# Altium integrated library SparkFun-Connectors.IntLib: 333 symbols (part 1 of 9)
Pins are listed as number, name and electrical type; pins without a type are passive.

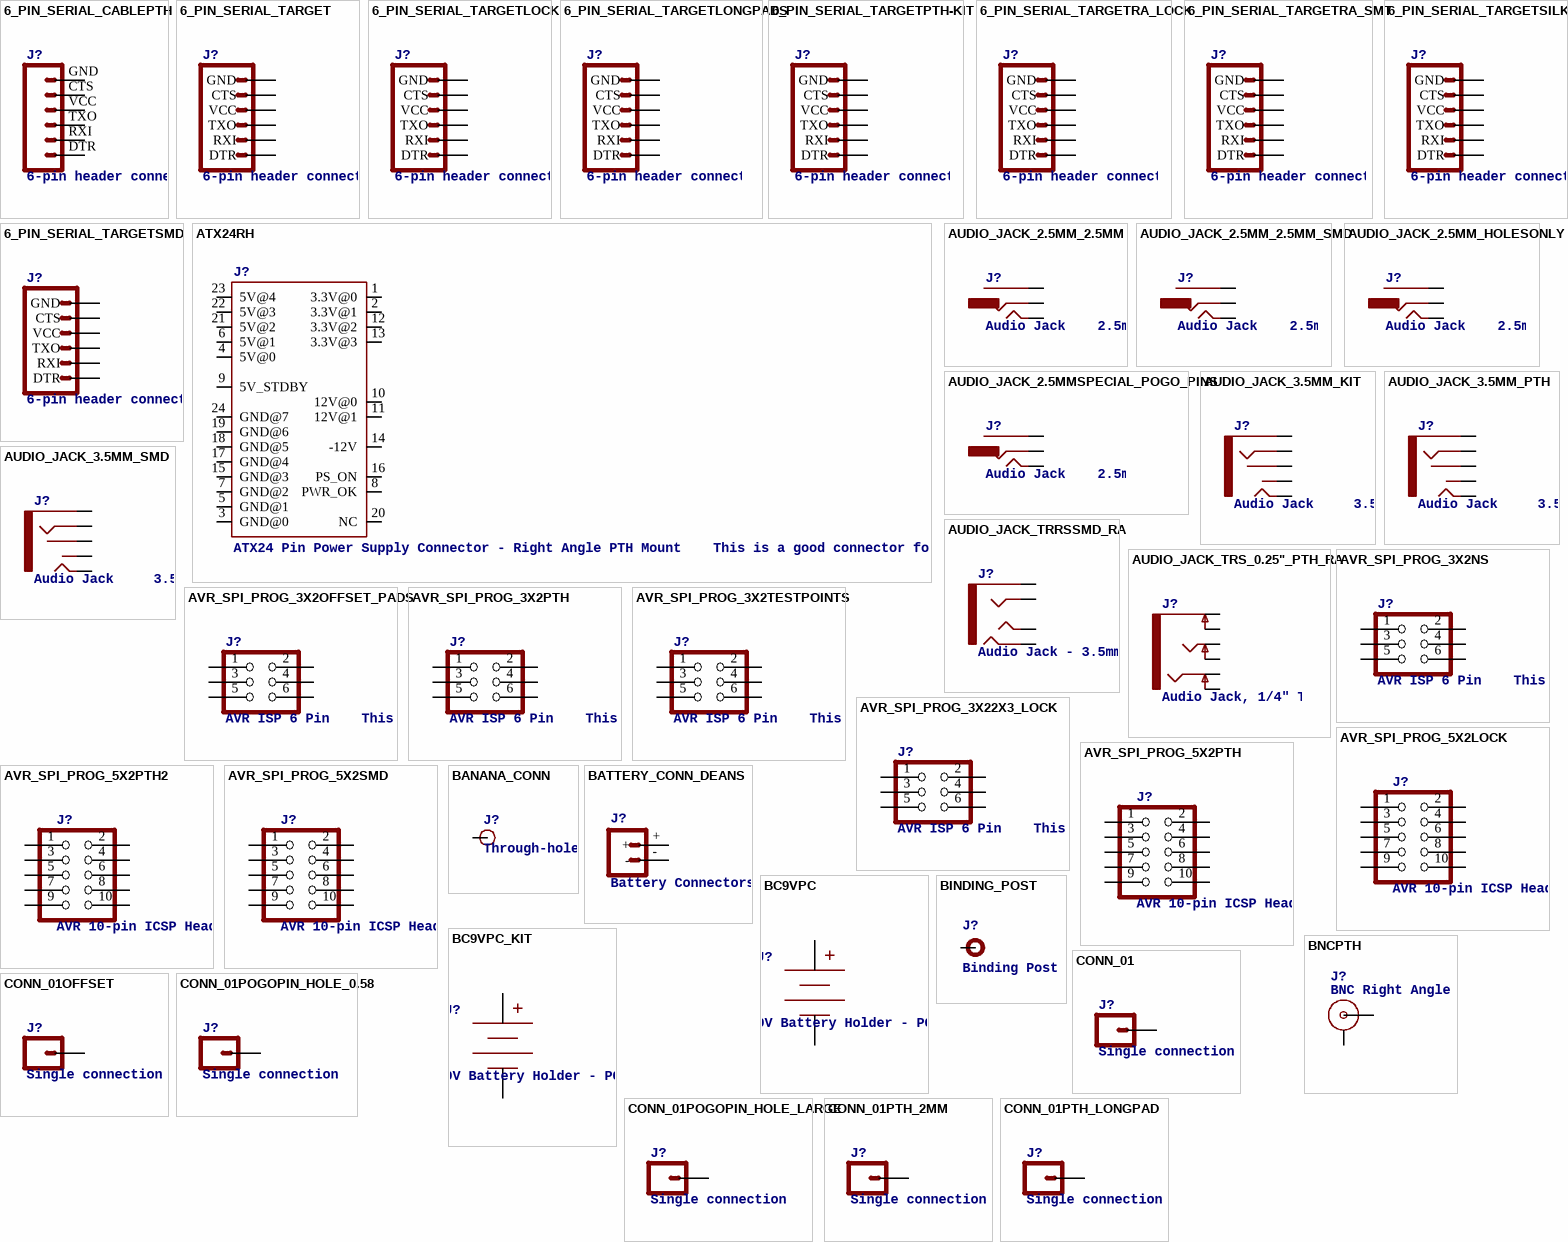
[diagram p0: symbols 6_PIN_SERIAL_CABLEPTH to CONN_01PTH_LONGPAD]

## 6_PIN_SERIAL_CABLEPTH
designator J?, comment 6-pin header connection for use with the "FTDI BASIC" pinout - CABLE SIDE.     Also known as "Arduino Serial Program Header".    This is used on a design to provide a 6-pin connection point for serial communication usually from a USB cable (D+/D-) to these headers (RX/TX). It also has the remaining pins necessary for programming in the Arduino evironment (DTR, GND, and sometimes VCC).    Note, this device has "CABLE" in the name.  It is intended to be used on a design that usually lives on the end of your USB cable and prvides the converter chip (FTDI232 or FTDI231x) to commnicate serial RX/TX.     The "sister" device, named "TARGET" is inteneded to be used on a design that contains a target micro-controller that you wish to program.    You can populate with some of these:  Female Headers (PRT-00115)       For reference (or to suit your programming needs) check out these designs:   SparkFun FTDI Basic Breakout - 5V (DEV-09716)   SparkFun FTDI Basic Breakout - 3.3V (DEV-09873)   SparkFun FTDI SmartBasic (DEV-12935)   SparkFun Beefy 3 - FTDI Basic Breakout (DEV-13746)
footprint FTDI_BASIC
pins: CTS 5, DTR 1, GND 6, RXI 2, TXO 3, VCC 4

## 6_PIN_SERIAL_TARGET
designator J?, comment 6-pin header connection for use with the "FTDI BASIC" pinout - TARGET SIDE.     Also known as "Arduino Serial Program Header".    It is used to mate with our FTDI Basic serial programmers using the Arduino IDE.    Note, this device has "TARGET" in the name. It is intended to be used on a design that contains a target micro-controller that you wish to program.    The "sister" device, named "CABLE" is inteneded to be used on a design that usually lives on the end of your USB cable and prvides the converter chip (FTDI232 or FTDI231x) to commnicate serial RX/TX.    You can populate with some of these:    Break Away Headers - Straight (PRT-00116)   For reference (or to suit your programming needs) check out these designs:   SparkFun FTDI Basic Breakout - 5V (DEV-09716)   SparkFun FTDI Basic Breakout - 3.3V (DEV-09873)   SparkFun FTDI SmartBasic (DEV-12935)   SparkFun Beefy 3 - FTDI Basic Breakout (DEV-13746)
footprint 1X06
pins: 1 DTR, 2 RXI, 3 TXO, 4 VCC, 5 CTS, 6 GND

## 6_PIN_SERIAL_TARGETLOCK
designator J?, comment 6-pin header connection for use with the "FTDI BASIC" pinout - TARGET SIDE.     Also known as "Arduino Serial Program Header".    It is used to mate with our FTDI Basic serial programmers using the Arduino IDE.    Note, this device has "TARGET" in the name. It is intended to be used on a design that contains a target micro-controller that you wish to program.    The "sister" device, named "CABLE" is inteneded to be used on a design that usually lives on the end of your USB cable and prvides the converter chip (FTDI232 or FTDI231x) to commnicate serial RX/TX.    You can populate with some of these:    Break Away Headers - Straight (PRT-00116)   For reference (or to suit your programming needs) check out these designs:   SparkFun FTDI Basic Breakout - 5V (DEV-09716)   SparkFun FTDI Basic Breakout - 3.3V (DEV-09873)   SparkFun FTDI SmartBasic (DEV-12935)   SparkFun Beefy 3 - FTDI Basic Breakout (DEV-13746)
footprint 1X06_LOCK
pins: 1 DTR, 2 RXI, 3 TXO, 4 VCC, 5 CTS, 6 GND

## 6_PIN_SERIAL_TARGETLONGPADS
designator J?, comment 6-pin header connection for use with the "FTDI BASIC" pinout - TARGET SIDE.     Also known as "Arduino Serial Program Header".    It is used to mate with our FTDI Basic serial programmers using the Arduino IDE.    Note, this device has "TARGET" in the name. It is intended to be used on a design that contains a target micro-controller that you wish to program.    The "sister" device, named "CABLE" is inteneded to be used on a design that usually lives on the end of your USB cable and prvides the converter chip (FTDI232 or FTDI231x) to commnicate serial RX/TX.    You can populate with some of these:    Break Away Headers - Straight (PRT-00116)   For reference (or to suit your programming needs) check out these designs:   SparkFun FTDI Basic Breakout - 5V (DEV-09716)   SparkFun FTDI Basic Breakout - 3.3V (DEV-09873)   SparkFun FTDI SmartBasic (DEV-12935)   SparkFun Beefy 3 - FTDI Basic Breakout (DEV-13746)
footprint 1X06_LONGPADS
pins: 1 DTR, 2 RXI, 3 TXO, 4 VCC, 5 CTS, 6 GND

## 6_PIN_SERIAL_TARGETPTH-KIT
designator J?, comment 6-pin header connection for use with the "FTDI BASIC" pinout - TARGET SIDE.     Also known as "Arduino Serial Program Header".    It is used to mate with our FTDI Basic serial programmers using the Arduino IDE.    Note, this device has "TARGET" in the name. It is intended to be used on a design that contains a target micro-controller that you wish to program.    The "sister" device, named "CABLE" is inteneded to be used on a design that usually lives on the end of your USB cable and prvides the converter chip (FTDI232 or FTDI231x) to commnicate serial RX/TX.    You can populate with some of these:    Break Away Headers - Straight (PRT-00116)   For reference (or to suit your programming needs) check out these designs:   SparkFun FTDI Basic Breakout - 5V (DEV-09716)   SparkFun FTDI Basic Breakout - 3.3V (DEV-09873)   SparkFun FTDI SmartBasic (DEV-12935)   SparkFun Beefy 3 - FTDI Basic Breakout (DEV-13746)
footprint 1X06-KIT
pins: 1 DTR, 2 RXI, 3 TXO, 4 VCC, 5 CTS, 6 GND

## 6_PIN_SERIAL_TARGETRA_LOCK
designator J?, comment 6-pin header connection for use with the "FTDI BASIC" pinout - TARGET SIDE.     Also known as "Arduino Serial Program Header".    It is used to mate with our FTDI Basic serial programmers using the Arduino IDE.    Note, this device has "TARGET" in the name. It is intended to be used on a design that contains a target micro-controller that you wish to program.    The "sister" device, named "CABLE" is inteneded to be used on a design that usually lives on the end of your USB cable and prvides the converter chip (FTDI232 or FTDI231x) to commnicate serial RX/TX.    You can populate with some of these:    Break Away Headers - Straight (PRT-00116)   For reference (or to suit your programming needs) check out these designs:   SparkFun FTDI Basic Breakout - 5V (DEV-09716)   SparkFun FTDI Basic Breakout - 3.3V (DEV-09873)   SparkFun FTDI SmartBasic (DEV-12935)   SparkFun Beefy 3 - FTDI Basic Breakout (DEV-13746)
footprint MOLEX_1X6_RA_LOCK
pins: 1 GND, 2 CTS, 3 VCC, 4 TXO, 5 RXI, 6 DTR

## 6_PIN_SERIAL_TARGETRA_SMT
designator J?, comment 6-pin header connection for use with the "FTDI BASIC" pinout - TARGET SIDE.     Also known as "Arduino Serial Program Header".    It is used to mate with our FTDI Basic serial programmers using the Arduino IDE.    Note, this device has "TARGET" in the name. It is intended to be used on a design that contains a target micro-controller that you wish to program.    The "sister" device, named "CABLE" is inteneded to be used on a design that usually lives on the end of your USB cable and prvides the converter chip (FTDI232 or FTDI231x) to commnicate serial RX/TX.    You can populate with some of these:    Break Away Headers - Straight (PRT-00116)   For reference (or to suit your programming needs) check out these designs:   SparkFun FTDI Basic Breakout - 5V (DEV-09716)   SparkFun FTDI Basic Breakout - 3.3V (DEV-09873)   SparkFun FTDI SmartBasic (DEV-12935)   SparkFun Beefy 3 - FTDI Basic Breakout (DEV-13746)
PROD_ID: CONN-08971
footprint 6_PIN_SERIAL_TARGET_SIDE_RA_SMT
pins: 1 DTR, 2 TXO, 3 RXI, 4 VCC, 5 CTS, 6 GND

## 6_PIN_SERIAL_TARGETSILK
designator J?, comment 6-pin header connection for use with the "FTDI BASIC" pinout - TARGET SIDE.     Also known as "Arduino Serial Program Header".    It is used to mate with our FTDI Basic serial programmers using the Arduino IDE.    Note, this device has "TARGET" in the name. It is intended to be used on a design that contains a target micro-controller that you wish to program.    The "sister" device, named "CABLE" is inteneded to be used on a design that usually lives on the end of your USB cable and prvides the converter chip (FTDI232 or FTDI231x) to commnicate serial RX/TX.    You can populate with some of these:    Break Away Headers - Straight (PRT-00116)   For reference (or to suit your programming needs) check out these designs:   SparkFun FTDI Basic Breakout - 5V (DEV-09716)   SparkFun FTDI Basic Breakout - 3.3V (DEV-09873)   SparkFun FTDI SmartBasic (DEV-12935)   SparkFun Beefy 3 - FTDI Basic Breakout (DEV-13746)
footprint 6_PIN_SERIAL_TARGET_SIDE_W_SILK
pins: P$1 DTR, P$2 TXO, P$3 RXI, P$4 VCC, P$5 CTS, P$6 GND

## 6_PIN_SERIAL_TARGETSMD
designator J?, comment 6-pin header connection for use with the "FTDI BASIC" pinout - TARGET SIDE.     Also known as "Arduino Serial Program Header".    It is used to mate with our FTDI Basic serial programmers using the Arduino IDE.    Note, this device has "TARGET" in the name. It is intended to be used on a design that contains a target micro-controller that you wish to program.    The "sister" device, named "CABLE" is inteneded to be used on a design that usually lives on the end of your USB cable and prvides the converter chip (FTDI232 or FTDI231x) to commnicate serial RX/TX.    You can populate with some of these:    Break Away Headers - Straight (PRT-00116)   For reference (or to suit your programming needs) check out these designs:   SparkFun FTDI Basic Breakout - 5V (DEV-09716)   SparkFun FTDI Basic Breakout - 3.3V (DEV-09873)   SparkFun FTDI SmartBasic (DEV-12935)   SparkFun Beefy 3 - FTDI Basic Breakout (DEV-13746)
PROD_ID: CONN-08971
footprint 1X06-SMD_RA_MALE
pins: 1 DTR, 2 RXI, 3 TXO, 4 VCC, 5 CTS, 6 GND

## ATX24RH
designator J?, comment ATX24 Pin Power Supply Connector - Right Angle PTH Mount    This is a good connector for connecting a computer power supply to a PCB. It's massive, but provides many amps of power at 5V and 12V.   SparkFun Products:  SparkFun Benchtop Power Board Kit  SparkFun Power Driver Shield Kit
PROD_ID: CONN-09674; SF_ID: PRT-09498
footprint ATX24_RIGHT_ANGLE
pins: 1 3.3V@0, 2 3.3V@1, 3 GND@0, 4 5V@0, 5 GND@1, 6 5V@1, 7 GND@2, 8 PWR_OK, 9 5V_STDBY, 10 12V@0, 11 12V@1, 12 3.3V@2, 13 3.3V@3, 14 -12V, 15 GND@3, 16 PS_ON, 17 GND@4, 18 GND@5, 19 GND@6, 20 NC, 21 5V@2, 22 5V@3, 23 5V@4, 24 GND@7

## AUDIO_JACK_2.5MM_2.5MM
designator J?, comment Audio Jack    2.5mm variants of PTH and SMT audio jacks.   SparkFun Products:  SparkFun PicoBoard- 2.5mm SMD
PROD_ID: CONN-09878
footprint STEREOJACK2.5MM_STEREOJACK2.5MM
pins: RING1 SLEEVE, SHIELD LEFT, TIP RIGHT

## AUDIO_JACK_2.5MM_2.5MM_SMD
designator J?, comment Audio Jack    2.5mm variants of PTH and SMT audio jacks.   SparkFun Products:  SparkFun PicoBoard- 2.5mm SMD
PROD_ID: CONN-10062
footprint STEREOJACK2.5MM
pins: 1 LEFT, 4 RIGHT, 5 SLEEVE

## AUDIO_JACK_2.5MM_HOLESONLY
designator J?, comment Audio Jack    2.5mm variants of PTH and SMT audio jacks.   SparkFun Products:  SparkFun PicoBoard- 2.5mm SMD
footprint STEREOJACK2.5MM_SPECIAL_HOLES-ONLY
pins: RING1 SLEEVE, SHIELD LEFT, TIP RIGHT

## AUDIO_JACK_2.5MMSPECIAL_POGO_PINS
designator J?, comment Audio Jack    2.5mm variants of PTH and SMT audio jacks.   SparkFun Products:  SparkFun PicoBoard- 2.5mm SMD
footprint STEREOJACK2.5MM_SPECIAL_POGOPINS
pins: RING1 SLEEVE, SHIELD LEFT, TIP RIGHT

## AUDIO_JACK_3.5MM_KIT
designator J?, comment Audio Jack     3.5mm variants of PTH and SMT stereo audio jack with bypass switches.   SparkFun Products:  SparkFun SparkPunk Sound Kit  - PTH  MP3 Trigger -3.5mm SMD  SparkFun PicoBoard- 2.5mm SMD
PROD_ID: CONN-08774; SF_ID: PRT-08032
footprint AUDIO-JACK-KIT
pins: RING, RSH, SLEEVE, TIP, TSH

## AUDIO_JACK_3.5MM_PTH
designator J?, comment Audio Jack     3.5mm variants of PTH and SMT stereo audio jack with bypass switches.   SparkFun Products:  SparkFun SparkPunk Sound Kit  - PTH  MP3 Trigger -3.5mm SMD  SparkFun PicoBoard- 2.5mm SMD
PROD_ID: CONN-08774; SF_ID: PRT-08032
footprint AUDIO-JACK
pins: RING, RSH, SLEEVE, TIP, TSH

## AUDIO_JACK_3.5MM_SMD
designator J?, comment Audio Jack     3.5mm variants of PTH and SMT stereo audio jack with bypass switches.   SparkFun Products:  SparkFun SparkPunk Sound Kit  - PTH  MP3 Trigger -3.5mm SMD  SparkFun PicoBoard- 2.5mm SMD
PROD_ID: CONN-10353
footprint AUDIO-JACK-3.5MM-SMD
pins: RING, RSH, SLEEVE, TIP, TSH

## AUDIO_JACK_TRRSSMD_RA
designator J?, comment Audio Jack - 3.5mm TRRS (SMD)    This is a 3.5mm TRRS SMD audio jack.  TRRS connectors are the audio-style connectors that you see on some phones, MP3 players and development boards.  TRRS stands for “tip, ring, ring, sleeve,” which reflects that this  has three conductors and a ground.    SparkFun Products: Audio Jack  mbed Starter Kit  SparkFun TRRS 3.5mm Jack Breakout
PROD_ID: CONN-10676; SF_ID: PRT-12639
footprint AUDIO_JACK_3.5MM_TRRS_SMD_RA
pins: EARTH, RING1, RING2, TIP

## AUDIO_JACK_TRS_0.25"_PTH_RA
designator J?, comment Audio Jack, 1/4" TRS jack, horizontal, PTH, aka "Phono jack"       Find the connector here:  Audio Jack - 1/4" Stereo (right angle) (COM-11144)  Datasheet  Note, although the datasheet and physical part are slightly different, this footprint was proven to mate well on the Proto Pedal.          This device is used on these SparkFun Products:  SparkFun TRS Jack Breakout - 1/4" Stereo (BOB-13005 )   SparkFun Proto Pedal - sorry bad link - product comming soon! (PRT-13124)
PROD_ID: CONN-12339; SF_ID: COM-11144
footprint AUDIO_JACK_0.25"_TRS_PTH_RA
pins: RING, RING-NORM, SLEEVE EARTH, SLEEVE-NORM EARTH-NORM, TIP, TIP-NORM

## AVR_SPI_PROG_3X2NS
designator J?, comment AVR ISP 6 Pin    This is the reduced ISP connector for AVR programming. Common on Arduino. This footprint will take up less PCB space and can be used with a 10-pin to 6-pin adapter such as SKU: BOB-08508   **Special note about "TEST_POINT" package. The stop mask is on the top side, so if you want your programming test points to be on the bottom of your board, make sure to place this package on the bottom side of the board. This also ensure that the orientation to program from the bottom side will be correct.   SparkFun Products:  SparkFun ISP Pogo Adapter - NS  Tiny AVR Programmer -PTH
footprint 2X3-NS
pins: 1, 2, 3, 4, 5, 6

## AVR_SPI_PROG_3X2OFFSET_PADS
designator J?, comment AVR ISP 6 Pin    This is the reduced ISP connector for AVR programming. Common on Arduino. This footprint will take up less PCB space and can be used with a 10-pin to 6-pin adapter such as SKU: BOB-08508   **Special note about "TEST_POINT" package. The stop mask is on the top side, so if you want your programming test points to be on the bottom of your board, make sure to place this package on the bottom side of the board. This also ensure that the orientation to program from the bottom side will be correct.   SparkFun Products:  SparkFun ISP Pogo Adapter - NS  Tiny AVR Programmer -PTH
footprint 2X3_OFFSET
pins: 1, 2, 3, 4, 5, 6

## AVR_SPI_PROG_3X2PTH
designator J?, comment AVR ISP 6 Pin    This is the reduced ISP connector for AVR programming. Common on Arduino. This footprint will take up less PCB space and can be used with a 10-pin to 6-pin adapter such as SKU: BOB-08508   **Special note about "TEST_POINT" package. The stop mask is on the top side, so if you want your programming test points to be on the bottom of your board, make sure to place this package on the bottom side of the board. This also ensure that the orientation to program from the bottom side will be correct.   SparkFun Products:  SparkFun ISP Pogo Adapter - NS  Tiny AVR Programmer -PTH
footprint 2X3
pins: 1, 2, 3, 4, 5, 6

## AVR_SPI_PROG_3X2TESTPOINTS
designator J?, comment AVR ISP 6 Pin    This is the reduced ISP connector for AVR programming. Common on Arduino. This footprint will take up less PCB space and can be used with a 10-pin to 6-pin adapter such as SKU: BOB-08508   **Special note about "TEST_POINT" package. The stop mask is on the top side, so if you want your programming test points to be on the bottom of your board, make sure to place this package on the bottom side of the board. This also ensure that the orientation to program from the bottom side will be correct.   SparkFun Products:  SparkFun ISP Pogo Adapter - NS  Tiny AVR Programmer -PTH
footprint 2X3_TEST_POINTS
pins: 1, 2, 3, 4, 5, 6

## AVR_SPI_PROG_3X22X3_LOCK
designator J?, comment AVR ISP 6 Pin    This is the reduced ISP connector for AVR programming. Common on Arduino. This footprint will take up less PCB space and can be used with a 10-pin to 6-pin adapter such as SKU: BOB-08508   **Special note about "TEST_POINT" package. The stop mask is on the top side, so if you want your programming test points to be on the bottom of your board, make sure to place this package on the bottom side of the board. This also ensure that the orientation to program from the bottom side will be correct.   SparkFun Products:  SparkFun ISP Pogo Adapter - NS  Tiny AVR Programmer -PTH
footprint 2X3_LOCK
pins: 1, 2, 3, 4, 5, 6

## AVR_SPI_PROG_5X2LOCK
designator J?, comment AVR 10-pin ICSP Header    This is the standard AVR In Circuit Serial Programming header. Minimal, but includes pin one indicator. Works with standard Olimex programmers.    SparkFun Products:  2x5 AVR ICSP Male Header - PTH  2x5 Pin Shrouded Header - PTH2
PROD_ID: CONN-08671; SF_ID: PRT-08506
footprint 2X5-SHROUDED_LOCK
pins: 1 MOSI, 2 VCC (power), 3 NC, 4 GND@1 (power), 5 RESET, 6 GND@2 (power), 7 SCK, 8 GND@3 (power), 9 MISO, 10 GND@4 (power)

## AVR_SPI_PROG_5X2PTH
designator J?, comment AVR 10-pin ICSP Header    This is the standard AVR In Circuit Serial Programming header. Minimal, but includes pin one indicator. Works with standard Olimex programmers.    SparkFun Products:  2x5 AVR ICSP Male Header - PTH  2x5 Pin Shrouded Header - PTH2
footprint 2X5
pins: 1 MOSI, 2 VCC (power), 3 NC, 4 GND@1 (power), 5 RESET, 6 GND@2 (power), 7 SCK, 8 GND@3 (power), 9 MISO, 10 GND@4 (power)

## AVR_SPI_PROG_5X2PTH2
designator J?, comment AVR 10-pin ICSP Header    This is the standard AVR In Circuit Serial Programming header. Minimal, but includes pin one indicator. Works with standard Olimex programmers.    SparkFun Products:  2x5 AVR ICSP Male Header - PTH  2x5 Pin Shrouded Header - PTH2
PROD_ID: CONN-08671; SF_ID: PRT-08506
footprint 2X5-SHROUDED
pins: 1 MOSI, 2 VCC (power), 3 NC, 4 GND@1 (power), 5 RESET, 6 GND@2 (power), 7 SCK, 8 GND@3 (power), 9 MISO, 10 GND@4 (power)

## AVR_SPI_PROG_5X2SMD
designator J?, comment AVR 10-pin ICSP Header    This is the standard AVR In Circuit Serial Programming header. Minimal, but includes pin one indicator. Works with standard Olimex programmers.    SparkFun Products:  2x5 AVR ICSP Male Header - PTH  2x5 Pin Shrouded Header - PTH2
footprint 2X5-SHROUDED_SMD
pins: 1 MOSI, 2 VCC (power), 3 NC, 4 GND@1 (power), 5 RESET, 6 GND@2 (power), 7 SCK, 8 GND@3 (power), 9 MISO, 10 GND@4 (power)

## BANANA_CONN
designator J?, comment Through-hole Banana Jack    Basic PTH connection for banana jack plugs   SparkFun Products:  Multimeter Kit  Banana to Alligator Cable  Banana to Alligator Coax Cable  Banana to Banana Cable  Banana to IC Hook Cables
footprint BANANA_CONN
pins: P$1 1

## BATTERY_CONN_DEANS
designator J?, comment Battery Connectors    Various footprints for battery connections   SparkFun Products:  Deans Connector -M/F Pair
SF_ID: PRT-11864
footprint DEANS
pins: +, -

## BC9VPC
designator J?, comment 9V Battery Holder - PC Mount    Standard and Kit footprints included   SparkFun Products:  SparkFun SparkPunk Sound Kit  SparkFun SparkPunk Sequencer Kit
PROD_ID: BATT-10855
footprint BC9VPC
pins: V+, V-

## BC9VPC_KIT
designator J?, comment 9V Battery Holder - PC Mount    Standard and Kit footprints included   SparkFun Products:  SparkFun SparkPunk Sound Kit  SparkFun SparkPunk Sequencer Kit
PROD_ID: BATT-10855
footprint BC9VPC_KIT
pins: V+, V-

## BINDING_POST
designator J?, comment Binding Post    The component itself has an threaded, insulated body that goes through the board, with a small threaded metal stud coming off the back.     The intent of this package is that the post goes through a milled obling hole, and a small wire would be used to connect from the PCB pad to the metal contact on the post.    SparkFun Products: SparkFun Decade Resistance Box  SparkFun Benchtop Power Board Kit  Binding Post - Red  Binding Post - Black
PROD_ID: CONN-09675; SF_ID: PRT-09740
footprint BINDING_POST
pins: P$1

## BNCPTH
designator J?, comment BNC Right Angle Connector    Mouser Part# 5227161   SparkFun Products: BNC Connector - Right Angle
PROD_ID: LPA-12729; SF_ID: PRT-10550
footprint BNC
pins: GND, S OUT

## CONN_01
designator J?, comment Single connection point. Often used as Generic Header-pin footprint for 0.1 inch spaced/style header connections       On any of the 0.1 inch spaced packages, you can populate with these:   Break Away Headers - Straight (PRT-00116)   Break Away Male Headers - Right Angle (PRT-00553)   Female Headers (PRT-00115)   Break Away Headers - Machine Pin (PRT-00117)   Break Away Female Headers - Swiss Machine Pin (PRT-00743)          This device is also useful as a general connection point to wire up your design to another part of your project. Our various solder wires solder well into these plated through hole pads.   Hook-Up Wire - Assortment (Stranded, 22 AWG) (PRT-11375)   Hook-Up Wire - Assortment (Solid Core, 22 AWG) (PRT-11367)   View the entire wire category on our website here          Special notes:    SMTSO-256-ET is a "flush mount" nut for a 4-40 screw. We mostly use this on specialty testbeds; it is a nice way to connect hardware to your PCB at an adjustable hieght.    Also note, the SNAP packages are for using a snappable style connector. We sell a baggie of snaps and they are also used on two LilyPad designs:   Snap Assortment - 30 pack (male and female) (DEV-11347)  LilyPad Arduino SimpleSnap (DEV-10941)   LilyPad SimpleSnap Protoboard (DEV-10940)
footprint 1X01
pins: 1

## CONN_01OFFSET
designator J?, comment Single connection point. Often used as Generic Header-pin footprint for 0.1 inch spaced/style header connections       On any of the 0.1 inch spaced packages, you can populate with these:   Break Away Headers - Straight (PRT-00116)   Break Away Male Headers - Right Angle (PRT-00553)   Female Headers (PRT-00115)   Break Away Headers - Machine Pin (PRT-00117)   Break Away Female Headers - Swiss Machine Pin (PRT-00743)          This device is also useful as a general connection point to wire up your design to another part of your project. Our various solder wires solder well into these plated through hole pads.   Hook-Up Wire - Assortment (Stranded, 22 AWG) (PRT-11375)   Hook-Up Wire - Assortment (Solid Core, 22 AWG) (PRT-11367)   View the entire wire category on our website here          Special notes:    SMTSO-256-ET is a "flush mount" nut for a 4-40 screw. We mostly use this on specialty testbeds; it is a nice way to connect hardware to your PCB at an adjustable hieght.    Also note, the SNAP packages are for using a snappable style connector. We sell a baggie of snaps and they are also used on two LilyPad designs:   Snap Assortment - 30 pack (male and female) (DEV-11347)  LilyPad Arduino SimpleSnap (DEV-10941)   LilyPad SimpleSnap Protoboard (DEV-10940)
footprint 1X01_OFFSET
pins: 1

## CONN_01POGOPIN_HOLE_0.58
designator J?, comment Single connection point. Often used as Generic Header-pin footprint for 0.1 inch spaced/style header connections       On any of the 0.1 inch spaced packages, you can populate with these:   Break Away Headers - Straight (PRT-00116)   Break Away Male Headers - Right Angle (PRT-00553)   Female Headers (PRT-00115)   Break Away Headers - Machine Pin (PRT-00117)   Break Away Female Headers - Swiss Machine Pin (PRT-00743)          This device is also useful as a general connection point to wire up your design to another part of your project. Our various solder wires solder well into these plated through hole pads.   Hook-Up Wire - Assortment (Stranded, 22 AWG) (PRT-11375)   Hook-Up Wire - Assortment (Solid Core, 22 AWG) (PRT-11367)   View the entire wire category on our website here          Special notes:    SMTSO-256-ET is a "flush mount" nut for a 4-40 screw. We mostly use this on specialty testbeds; it is a nice way to connect hardware to your PCB at an adjustable hieght.    Also note, the SNAP packages are for using a snappable style connector. We sell a baggie of snaps and they are also used on two LilyPad designs:   Snap Assortment - 30 pack (male and female) (DEV-11347)  LilyPad Arduino SimpleSnap (DEV-10941)   LilyPad SimpleSnap Protoboard (DEV-10940)
footprint 1X01_POGOPIN_HOLE_0.58_DIA
pins: 1

## CONN_01POGOPIN_HOLE_LARGE
designator J?, comment Single connection point. Often used as Generic Header-pin footprint for 0.1 inch spaced/style header connections       On any of the 0.1 inch spaced packages, you can populate with these:   Break Away Headers - Straight (PRT-00116)   Break Away Male Headers - Right Angle (PRT-00553)   Female Headers (PRT-00115)   Break Away Headers - Machine Pin (PRT-00117)   Break Away Female Headers - Swiss Machine Pin (PRT-00743)          This device is also useful as a general connection point to wire up your design to another part of your project. Our various solder wires solder well into these plated through hole pads.   Hook-Up Wire - Assortment (Stranded, 22 AWG) (PRT-11375)   Hook-Up Wire - Assortment (Solid Core, 22 AWG) (PRT-11367)   View the entire wire category on our website here          Special notes:    SMTSO-256-ET is a "flush mount" nut for a 4-40 screw. We mostly use this on specialty testbeds; it is a nice way to connect hardware to your PCB at an adjustable hieght.    Also note, the SNAP packages are for using a snappable style connector. We sell a baggie of snaps and they are also used on two LilyPad designs:   Snap Assortment - 30 pack (male and female) (DEV-11347)  LilyPad Arduino SimpleSnap (DEV-10941)   LilyPad SimpleSnap Protoboard (DEV-10940)
footprint 1X01_POGOPIN_HOLE_0.061_DIA
pins: 1

## CONN_01PTH_2MM
designator J?, comment Single connection point. Often used as Generic Header-pin footprint for 0.1 inch spaced/style header connections       On any of the 0.1 inch spaced packages, you can populate with these:   Break Away Headers - Straight (PRT-00116)   Break Away Male Headers - Right Angle (PRT-00553)   Female Headers (PRT-00115)   Break Away Headers - Machine Pin (PRT-00117)   Break Away Female Headers - Swiss Machine Pin (PRT-00743)          This device is also useful as a general connection point to wire up your design to another part of your project. Our various solder wires solder well into these plated through hole pads.   Hook-Up Wire - Assortment (Stranded, 22 AWG) (PRT-11375)   Hook-Up Wire - Assortment (Solid Core, 22 AWG) (PRT-11367)   View the entire wire category on our website here          Special notes:    SMTSO-256-ET is a "flush mount" nut for a 4-40 screw. We mostly use this on specialty testbeds; it is a nice way to connect hardware to your PCB at an adjustable hieght.    Also note, the SNAP packages are for using a snappable style connector. We sell a baggie of snaps and they are also used on two LilyPad designs:   Snap Assortment - 30 pack (male and female) (DEV-11347)  LilyPad Arduino SimpleSnap (DEV-10941)   LilyPad SimpleSnap Protoboard (DEV-10940)
footprint 1X01_2MM
pins: 1

## CONN_01PTH_LONGPAD
designator J?, comment Single connection point. Often used as Generic Header-pin footprint for 0.1 inch spaced/style header connections       On any of the 0.1 inch spaced packages, you can populate with these:   Break Away Headers - Straight (PRT-00116)   Break Away Male Headers - Right Angle (PRT-00553)   Female Headers (PRT-00115)   Break Away Headers - Machine Pin (PRT-00117)   Break Away Female Headers - Swiss Machine Pin (PRT-00743)          This device is also useful as a general connection point to wire up your design to another part of your project. Our various solder wires solder well into these plated through hole pads.   Hook-Up Wire - Assortment (Stranded, 22 AWG) (PRT-11375)   Hook-Up Wire - Assortment (Solid Core, 22 AWG) (PRT-11367)   View the entire wire category on our website here          Special notes:    SMTSO-256-ET is a "flush mount" nut for a 4-40 screw. We mostly use this on specialty testbeds; it is a nice way to connect hardware to your PCB at an adjustable hieght.    Also note, the SNAP packages are for using a snappable style connector. We sell a baggie of snaps and they are also used on two LilyPad designs:   Snap Assortment - 30 pack (male and female) (DEV-11347)  LilyPad Arduino SimpleSnap (DEV-10941)   LilyPad SimpleSnap Protoboard (DEV-10940)
footprint 1X01_LONGPAD
pins: 1

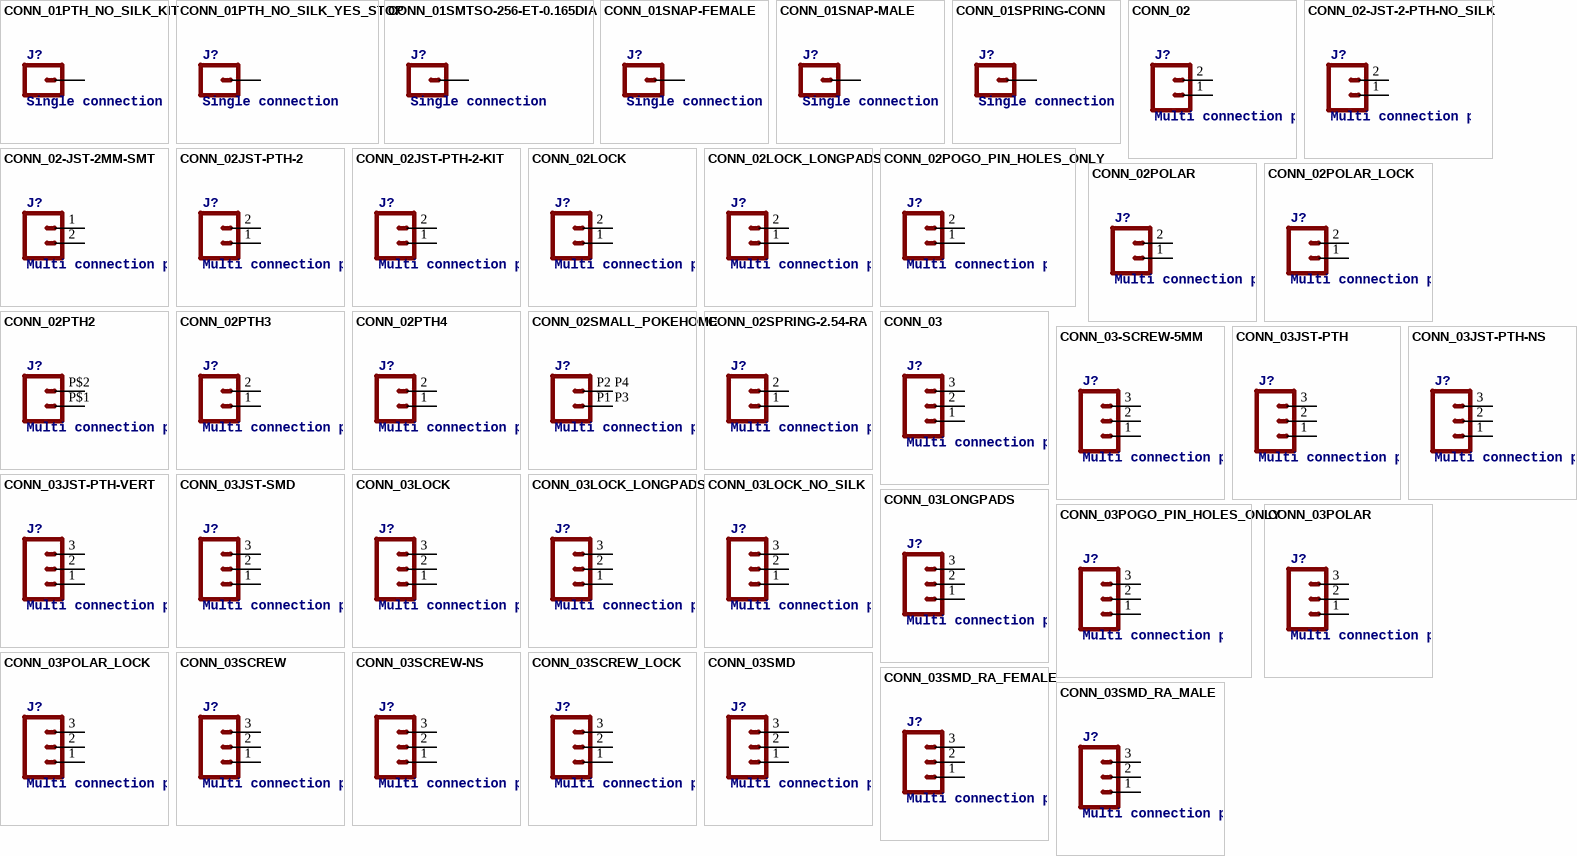
[diagram p1: symbols CONN_01PTH_NO_SILK_KIT to CONN_03SMD_RA_MALE]

## CONN_01PTH_NO_SILK_KIT
designator J?, comment Single connection point. Often used as Generic Header-pin footprint for 0.1 inch spaced/style header connections       On any of the 0.1 inch spaced packages, you can populate with these:   Break Away Headers - Straight (PRT-00116)   Break Away Male Headers - Right Angle (PRT-00553)   Female Headers (PRT-00115)   Break Away Headers - Machine Pin (PRT-00117)   Break Away Female Headers - Swiss Machine Pin (PRT-00743)          This device is also useful as a general connection point to wire up your design to another part of your project. Our various solder wires solder well into these plated through hole pads.   Hook-Up Wire - Assortment (Stranded, 22 AWG) (PRT-11375)   Hook-Up Wire - Assortment (Solid Core, 22 AWG) (PRT-11367)   View the entire wire category on our website here          Special notes:    SMTSO-256-ET is a "flush mount" nut for a 4-40 screw. We mostly use this on specialty testbeds; it is a nice way to connect hardware to your PCB at an adjustable hieght.    Also note, the SNAP packages are for using a snappable style connector. We sell a baggie of snaps and they are also used on two LilyPad designs:   Snap Assortment - 30 pack (male and female) (DEV-11347)  LilyPad Arduino SimpleSnap (DEV-10941)   LilyPad SimpleSnap Protoboard (DEV-10940)
footprint 1X01NS_KIT
pins: 1

## CONN_01PTH_NO_SILK_YES_STOP
designator J?, comment Single connection point. Often used as Generic Header-pin footprint for 0.1 inch spaced/style header connections       On any of the 0.1 inch spaced packages, you can populate with these:   Break Away Headers - Straight (PRT-00116)   Break Away Male Headers - Right Angle (PRT-00553)   Female Headers (PRT-00115)   Break Away Headers - Machine Pin (PRT-00117)   Break Away Female Headers - Swiss Machine Pin (PRT-00743)          This device is also useful as a general connection point to wire up your design to another part of your project. Our various solder wires solder well into these plated through hole pads.   Hook-Up Wire - Assortment (Stranded, 22 AWG) (PRT-11375)   Hook-Up Wire - Assortment (Solid Core, 22 AWG) (PRT-11367)   View the entire wire category on our website here          Special notes:    SMTSO-256-ET is a "flush mount" nut for a 4-40 screw. We mostly use this on specialty testbeds; it is a nice way to connect hardware to your PCB at an adjustable hieght.    Also note, the SNAP packages are for using a snappable style connector. We sell a baggie of snaps and they are also used on two LilyPad designs:   Snap Assortment - 30 pack (male and female) (DEV-11347)  LilyPad Arduino SimpleSnap (DEV-10941)   LilyPad SimpleSnap Protoboard (DEV-10940)
footprint 1X01_NO_SILK
pins: 1

## CONN_01SMTSO-256-ET-0.165DIA
designator J?, comment Single connection point. Often used as Generic Header-pin footprint for 0.1 inch spaced/style header connections       On any of the 0.1 inch spaced packages, you can populate with these:   Break Away Headers - Straight (PRT-00116)   Break Away Male Headers - Right Angle (PRT-00553)   Female Headers (PRT-00115)   Break Away Headers - Machine Pin (PRT-00117)   Break Away Female Headers - Swiss Machine Pin (PRT-00743)          This device is also useful as a general connection point to wire up your design to another part of your project. Our various solder wires solder well into these plated through hole pads.   Hook-Up Wire - Assortment (Stranded, 22 AWG) (PRT-11375)   Hook-Up Wire - Assortment (Solid Core, 22 AWG) (PRT-11367)   View the entire wire category on our website here          Special notes:    SMTSO-256-ET is a "flush mount" nut for a 4-40 screw. We mostly use this on specialty testbeds; it is a nice way to connect hardware to your PCB at an adjustable hieght.    Also note, the SNAP packages are for using a snappable style connector. We sell a baggie of snaps and they are also used on two LilyPad designs:   Snap Assortment - 30 pack (male and female) (DEV-11347)  LilyPad Arduino SimpleSnap (DEV-10941)   LilyPad SimpleSnap Protoboard (DEV-10940)
PROD_ID: HW-08694
footprint SMTSO-256-ET-0.165DIA
pins: P$1 1

## CONN_01SNAP-FEMALE
designator J?, comment Single connection point. Often used as Generic Header-pin footprint for 0.1 inch spaced/style header connections       On any of the 0.1 inch spaced packages, you can populate with these:   Break Away Headers - Straight (PRT-00116)   Break Away Male Headers - Right Angle (PRT-00553)   Female Headers (PRT-00115)   Break Away Headers - Machine Pin (PRT-00117)   Break Away Female Headers - Swiss Machine Pin (PRT-00743)          This device is also useful as a general connection point to wire up your design to another part of your project. Our various solder wires solder well into these plated through hole pads.   Hook-Up Wire - Assortment (Stranded, 22 AWG) (PRT-11375)   Hook-Up Wire - Assortment (Solid Core, 22 AWG) (PRT-11367)   View the entire wire category on our website here          Special notes:    SMTSO-256-ET is a "flush mount" nut for a 4-40 screw. We mostly use this on specialty testbeds; it is a nice way to connect hardware to your PCB at an adjustable hieght.    Also note, the SNAP packages are for using a snappable style connector. We sell a baggie of snaps and they are also used on two LilyPad designs:   Snap Assortment - 30 pack (male and female) (DEV-11347)  LilyPad Arduino SimpleSnap (DEV-10941)   LilyPad SimpleSnap Protoboard (DEV-10940)
footprint SNAP-FEMALE
pins: 1

## CONN_01SNAP-MALE
designator J?, comment Single connection point. Often used as Generic Header-pin footprint for 0.1 inch spaced/style header connections       On any of the 0.1 inch spaced packages, you can populate with these:   Break Away Headers - Straight (PRT-00116)   Break Away Male Headers - Right Angle (PRT-00553)   Female Headers (PRT-00115)   Break Away Headers - Machine Pin (PRT-00117)   Break Away Female Headers - Swiss Machine Pin (PRT-00743)          This device is also useful as a general connection point to wire up your design to another part of your project. Our various solder wires solder well into these plated through hole pads.   Hook-Up Wire - Assortment (Stranded, 22 AWG) (PRT-11375)   Hook-Up Wire - Assortment (Solid Core, 22 AWG) (PRT-11367)   View the entire wire category on our website here          Special notes:    SMTSO-256-ET is a "flush mount" nut for a 4-40 screw. We mostly use this on specialty testbeds; it is a nice way to connect hardware to your PCB at an adjustable hieght.    Also note, the SNAP packages are for using a snappable style connector. We sell a baggie of snaps and they are also used on two LilyPad designs:   Snap Assortment - 30 pack (male and female) (DEV-11347)  LilyPad Arduino SimpleSnap (DEV-10941)   LilyPad SimpleSnap Protoboard (DEV-10940)
footprint SNAP-MALE
pins: 2 1

## CONN_01SPRING-CONN
designator J?, comment Single connection point. Often used as Generic Header-pin footprint for 0.1 inch spaced/style header connections       On any of the 0.1 inch spaced packages, you can populate with these:   Break Away Headers - Straight (PRT-00116)   Break Away Male Headers - Right Angle (PRT-00553)   Female Headers (PRT-00115)   Break Away Headers - Machine Pin (PRT-00117)   Break Away Female Headers - Swiss Machine Pin (PRT-00743)          This device is also useful as a general connection point to wire up your design to another part of your project. Our various solder wires solder well into these plated through hole pads.   Hook-Up Wire - Assortment (Stranded, 22 AWG) (PRT-11375)   Hook-Up Wire - Assortment (Solid Core, 22 AWG) (PRT-11367)   View the entire wire category on our website here          Special notes:    SMTSO-256-ET is a "flush mount" nut for a 4-40 screw. We mostly use this on specialty testbeds; it is a nice way to connect hardware to your PCB at an adjustable hieght.    Also note, the SNAP packages are for using a snappable style connector. We sell a baggie of snaps and they are also used on two LilyPad designs:   Snap Assortment - 30 pack (male and female) (DEV-11347)  LilyPad Arduino SimpleSnap (DEV-10941)   LilyPad SimpleSnap Protoboard (DEV-10940)
SF_ID: PRT-11822
footprint SPRING-CONNECTOR
pins: P$2 1

## CONN_02
designator J?, comment Multi connection point. Often used as Generic Header-pin footprint for 0.1 inch spaced/style header connections    On any of the 0.1 inch spaced packages, you can populate with these:  Break Away Headers - Straight (PRT-00116)   Break Away Male Headers - Right Angle (PRT-00553)   Female Headers (PRT-00115)   Break Away Headers - Machine Pin (PRT-00117)   Break Away Female Headers - Swiss Machine Pin (PRT-00743)        For SCREWTERMINALS and SPRING TERMINALS visit here:  Screw Terimnals on SparkFun.com (5mm/3.5mm/2.54mm spacing)       This device is also useful as a general connection point to wire up your design to another part of your project. Our various solder wires solder well into these plated through hole pads.  Hook-Up Wire - Assortment (Stranded, 22 AWG) (PRT-11375)   Hook-Up Wire - Assortment (Solid Core, 22 AWG) (PRT-11367)   View the entire wire category on our website here          Special notes: Molex polarized connector foot print use with: PRT-08233 with associated crimp pins and housings.  2.54_SCREWTERM for use with  PRT-10571.  3.5mm Screw Terminal footprints for  PRT-08084  5mm Screw Terminal footprints for use with PRT-08432
footprint 1X02
pins: 1, 2

## CONN_02-JST-2-PTH-NO_SILK
designator J?, comment Multi connection point. Often used as Generic Header-pin footprint for 0.1 inch spaced/style header connections    On any of the 0.1 inch spaced packages, you can populate with these:  Break Away Headers - Straight (PRT-00116)   Break Away Male Headers - Right Angle (PRT-00553)   Female Headers (PRT-00115)   Break Away Headers - Machine Pin (PRT-00117)   Break Away Female Headers - Swiss Machine Pin (PRT-00743)        For SCREWTERMINALS and SPRING TERMINALS visit here:  Screw Terimnals on SparkFun.com (5mm/3.5mm/2.54mm spacing)       This device is also useful as a general connection point to wire up your design to another part of your project. Our various solder wires solder well into these plated through hole pads.  Hook-Up Wire - Assortment (Stranded, 22 AWG) (PRT-11375)   Hook-Up Wire - Assortment (Solid Core, 22 AWG) (PRT-11367)   View the entire wire category on our website here          Special notes: Molex polarized connector foot print use with: PRT-08233 with associated crimp pins and housings.  2.54_SCREWTERM for use with  PRT-10571.  3.5mm Screw Terminal footprints for  PRT-08084  5mm Screw Terminal footprints for use with PRT-08432
footprint JST-2-PTH-NS
pins: 1, 2

## CONN_02-JST-2MM-SMT
designator J?, comment Multi connection point. Often used as Generic Header-pin footprint for 0.1 inch spaced/style header connections    On any of the 0.1 inch spaced packages, you can populate with these:  Break Away Headers - Straight (PRT-00116)   Break Away Male Headers - Right Angle (PRT-00553)   Female Headers (PRT-00115)   Break Away Headers - Machine Pin (PRT-00117)   Break Away Female Headers - Swiss Machine Pin (PRT-00743)        For SCREWTERMINALS and SPRING TERMINALS visit here:  Screw Terimnals on SparkFun.com (5mm/3.5mm/2.54mm spacing)       This device is also useful as a general connection point to wire up your design to another part of your project. Our various solder wires solder well into these plated through hole pads.  Hook-Up Wire - Assortment (Stranded, 22 AWG) (PRT-11375)   Hook-Up Wire - Assortment (Solid Core, 22 AWG) (PRT-11367)   View the entire wire category on our website here          Special notes: Molex polarized connector foot print use with: PRT-08233 with associated crimp pins and housings.  2.54_SCREWTERM for use with  PRT-10571.  3.5mm Screw Terminal footprints for  PRT-08084  5mm Screw Terminal footprints for use with PRT-08432
PROD_ID: CONN-11443
footprint JST-2-SMD
pins: 1 2, 2 1

## CONN_02JST-PTH-2
designator J?, comment Multi connection point. Often used as Generic Header-pin footprint for 0.1 inch spaced/style header connections    On any of the 0.1 inch spaced packages, you can populate with these:  Break Away Headers - Straight (PRT-00116)   Break Away Male Headers - Right Angle (PRT-00553)   Female Headers (PRT-00115)   Break Away Headers - Machine Pin (PRT-00117)   Break Away Female Headers - Swiss Machine Pin (PRT-00743)        For SCREWTERMINALS and SPRING TERMINALS visit here:  Screw Terimnals on SparkFun.com (5mm/3.5mm/2.54mm spacing)       This device is also useful as a general connection point to wire up your design to another part of your project. Our various solder wires solder well into these plated through hole pads.  Hook-Up Wire - Assortment (Stranded, 22 AWG) (PRT-11375)   Hook-Up Wire - Assortment (Solid Core, 22 AWG) (PRT-11367)   View the entire wire category on our website here          Special notes: Molex polarized connector foot print use with: PRT-08233 with associated crimp pins and housings.  2.54_SCREWTERM for use with  PRT-10571.  3.5mm Screw Terminal footprints for  PRT-08084  5mm Screw Terminal footprints for use with PRT-08432
PROD_ID: CONN-09863; SKU: PRT-09914
footprint JST-2-PTH
pins: 1, 2

## CONN_02JST-PTH-2-KIT
designator J?, comment Multi connection point. Often used as Generic Header-pin footprint for 0.1 inch spaced/style header connections    On any of the 0.1 inch spaced packages, you can populate with these:  Break Away Headers - Straight (PRT-00116)   Break Away Male Headers - Right Angle (PRT-00553)   Female Headers (PRT-00115)   Break Away Headers - Machine Pin (PRT-00117)   Break Away Female Headers - Swiss Machine Pin (PRT-00743)        For SCREWTERMINALS and SPRING TERMINALS visit here:  Screw Terimnals on SparkFun.com (5mm/3.5mm/2.54mm spacing)       This device is also useful as a general connection point to wire up your design to another part of your project. Our various solder wires solder well into these plated through hole pads.  Hook-Up Wire - Assortment (Stranded, 22 AWG) (PRT-11375)   Hook-Up Wire - Assortment (Solid Core, 22 AWG) (PRT-11367)   View the entire wire category on our website here          Special notes: Molex polarized connector foot print use with: PRT-08233 with associated crimp pins and housings.  2.54_SCREWTERM for use with  PRT-10571.  3.5mm Screw Terminal footprints for  PRT-08084  5mm Screw Terminal footprints for use with PRT-08432
footprint JST-2-PTH-KIT
pins: 1, 2

## CONN_02LOCK
designator J?, comment Multi connection point. Often used as Generic Header-pin footprint for 0.1 inch spaced/style header connections    On any of the 0.1 inch spaced packages, you can populate with these:  Break Away Headers - Straight (PRT-00116)   Break Away Male Headers - Right Angle (PRT-00553)   Female Headers (PRT-00115)   Break Away Headers - Machine Pin (PRT-00117)   Break Away Female Headers - Swiss Machine Pin (PRT-00743)        For SCREWTERMINALS and SPRING TERMINALS visit here:  Screw Terimnals on SparkFun.com (5mm/3.5mm/2.54mm spacing)       This device is also useful as a general connection point to wire up your design to another part of your project. Our various solder wires solder well into these plated through hole pads.  Hook-Up Wire - Assortment (Stranded, 22 AWG) (PRT-11375)   Hook-Up Wire - Assortment (Solid Core, 22 AWG) (PRT-11367)   View the entire wire category on our website here          Special notes: Molex polarized connector foot print use with: PRT-08233 with associated crimp pins and housings.  2.54_SCREWTERM for use with  PRT-10571.  3.5mm Screw Terminal footprints for  PRT-08084  5mm Screw Terminal footprints for use with PRT-08432
footprint 1X02_LOCK
pins: 1, 2

## CONN_02LOCK_LONGPADS
designator J?, comment Multi connection point. Often used as Generic Header-pin footprint for 0.1 inch spaced/style header connections    On any of the 0.1 inch spaced packages, you can populate with these:  Break Away Headers - Straight (PRT-00116)   Break Away Male Headers - Right Angle (PRT-00553)   Female Headers (PRT-00115)   Break Away Headers - Machine Pin (PRT-00117)   Break Away Female Headers - Swiss Machine Pin (PRT-00743)        For SCREWTERMINALS and SPRING TERMINALS visit here:  Screw Terimnals on SparkFun.com (5mm/3.5mm/2.54mm spacing)       This device is also useful as a general connection point to wire up your design to another part of your project. Our various solder wires solder well into these plated through hole pads.  Hook-Up Wire - Assortment (Stranded, 22 AWG) (PRT-11375)   Hook-Up Wire - Assortment (Solid Core, 22 AWG) (PRT-11367)   View the entire wire category on our website here          Special notes: Molex polarized connector foot print use with: PRT-08233 with associated crimp pins and housings.  2.54_SCREWTERM for use with  PRT-10571.  3.5mm Screw Terminal footprints for  PRT-08084  5mm Screw Terminal footprints for use with PRT-08432
footprint 1X02_LOCK_LONGPADS
pins: 1, 2

## CONN_02POGO_PIN_HOLES_ONLY
designator J?, comment Multi connection point. Often used as Generic Header-pin footprint for 0.1 inch spaced/style header connections    On any of the 0.1 inch spaced packages, you can populate with these:  Break Away Headers - Straight (PRT-00116)   Break Away Male Headers - Right Angle (PRT-00553)   Female Headers (PRT-00115)   Break Away Headers - Machine Pin (PRT-00117)   Break Away Female Headers - Swiss Machine Pin (PRT-00743)        For SCREWTERMINALS and SPRING TERMINALS visit here:  Screw Terimnals on SparkFun.com (5mm/3.5mm/2.54mm spacing)       This device is also useful as a general connection point to wire up your design to another part of your project. Our various solder wires solder well into these plated through hole pads.  Hook-Up Wire - Assortment (Stranded, 22 AWG) (PRT-11375)   Hook-Up Wire - Assortment (Solid Core, 22 AWG) (PRT-11367)   View the entire wire category on our website here          Special notes: Molex polarized connector foot print use with: PRT-08233 with associated crimp pins and housings.  2.54_SCREWTERM for use with  PRT-10571.  3.5mm Screw Terminal footprints for  PRT-08084  5mm Screw Terminal footprints for use with PRT-08432
footprint 1X02_PP_HOLES_ONLY
pins: 1, 2

## CONN_02POLAR
designator J?, comment Multi connection point. Often used as Generic Header-pin footprint for 0.1 inch spaced/style header connections    On any of the 0.1 inch spaced packages, you can populate with these:  Break Away Headers - Straight (PRT-00116)   Break Away Male Headers - Right Angle (PRT-00553)   Female Headers (PRT-00115)   Break Away Headers - Machine Pin (PRT-00117)   Break Away Female Headers - Swiss Machine Pin (PRT-00743)        For SCREWTERMINALS and SPRING TERMINALS visit here:  Screw Terimnals on SparkFun.com (5mm/3.5mm/2.54mm spacing)       This device is also useful as a general connection point to wire up your design to another part of your project. Our various solder wires solder well into these plated through hole pads.  Hook-Up Wire - Assortment (Stranded, 22 AWG) (PRT-11375)   Hook-Up Wire - Assortment (Solid Core, 22 AWG) (PRT-11367)   View the entire wire category on our website here          Special notes: Molex polarized connector foot print use with: PRT-08233 with associated crimp pins and housings.  2.54_SCREWTERM for use with  PRT-10571.  3.5mm Screw Terminal footprints for  PRT-08084  5mm Screw Terminal footprints for use with PRT-08432
SF_ID: PRT-09918
footprint MOLEX-1X2
pins: 1, 2

## CONN_02POLAR_LOCK
designator J?, comment Multi connection point. Often used as Generic Header-pin footprint for 0.1 inch spaced/style header connections    On any of the 0.1 inch spaced packages, you can populate with these:  Break Away Headers - Straight (PRT-00116)   Break Away Male Headers - Right Angle (PRT-00553)   Female Headers (PRT-00115)   Break Away Headers - Machine Pin (PRT-00117)   Break Away Female Headers - Swiss Machine Pin (PRT-00743)        For SCREWTERMINALS and SPRING TERMINALS visit here:  Screw Terimnals on SparkFun.com (5mm/3.5mm/2.54mm spacing)       This device is also useful as a general connection point to wire up your design to another part of your project. Our various solder wires solder well into these plated through hole pads.  Hook-Up Wire - Assortment (Stranded, 22 AWG) (PRT-11375)   Hook-Up Wire - Assortment (Solid Core, 22 AWG) (PRT-11367)   View the entire wire category on our website here          Special notes: Molex polarized connector foot print use with: PRT-08233 with associated crimp pins and housings.  2.54_SCREWTERM for use with  PRT-10571.  3.5mm Screw Terminal footprints for  PRT-08084  5mm Screw Terminal footprints for use with PRT-08432
SF_ID: PRT-09918
footprint MOLEX-1X2_LOCK
pins: 1, 2